# Altium footprint library SamacSys.PcbLib: 46 footprints (part 3 of 3)
Each footprint in its own frame and in the unit in brackets; x right, y up, seen from the top. Pads: shape width x height; smd on the part's side, far side on the other; paste and mask are expansions set on the pad; w line width, h text height; cw(c..) or ccw(c..) is an arc to the next point about the centre after c.
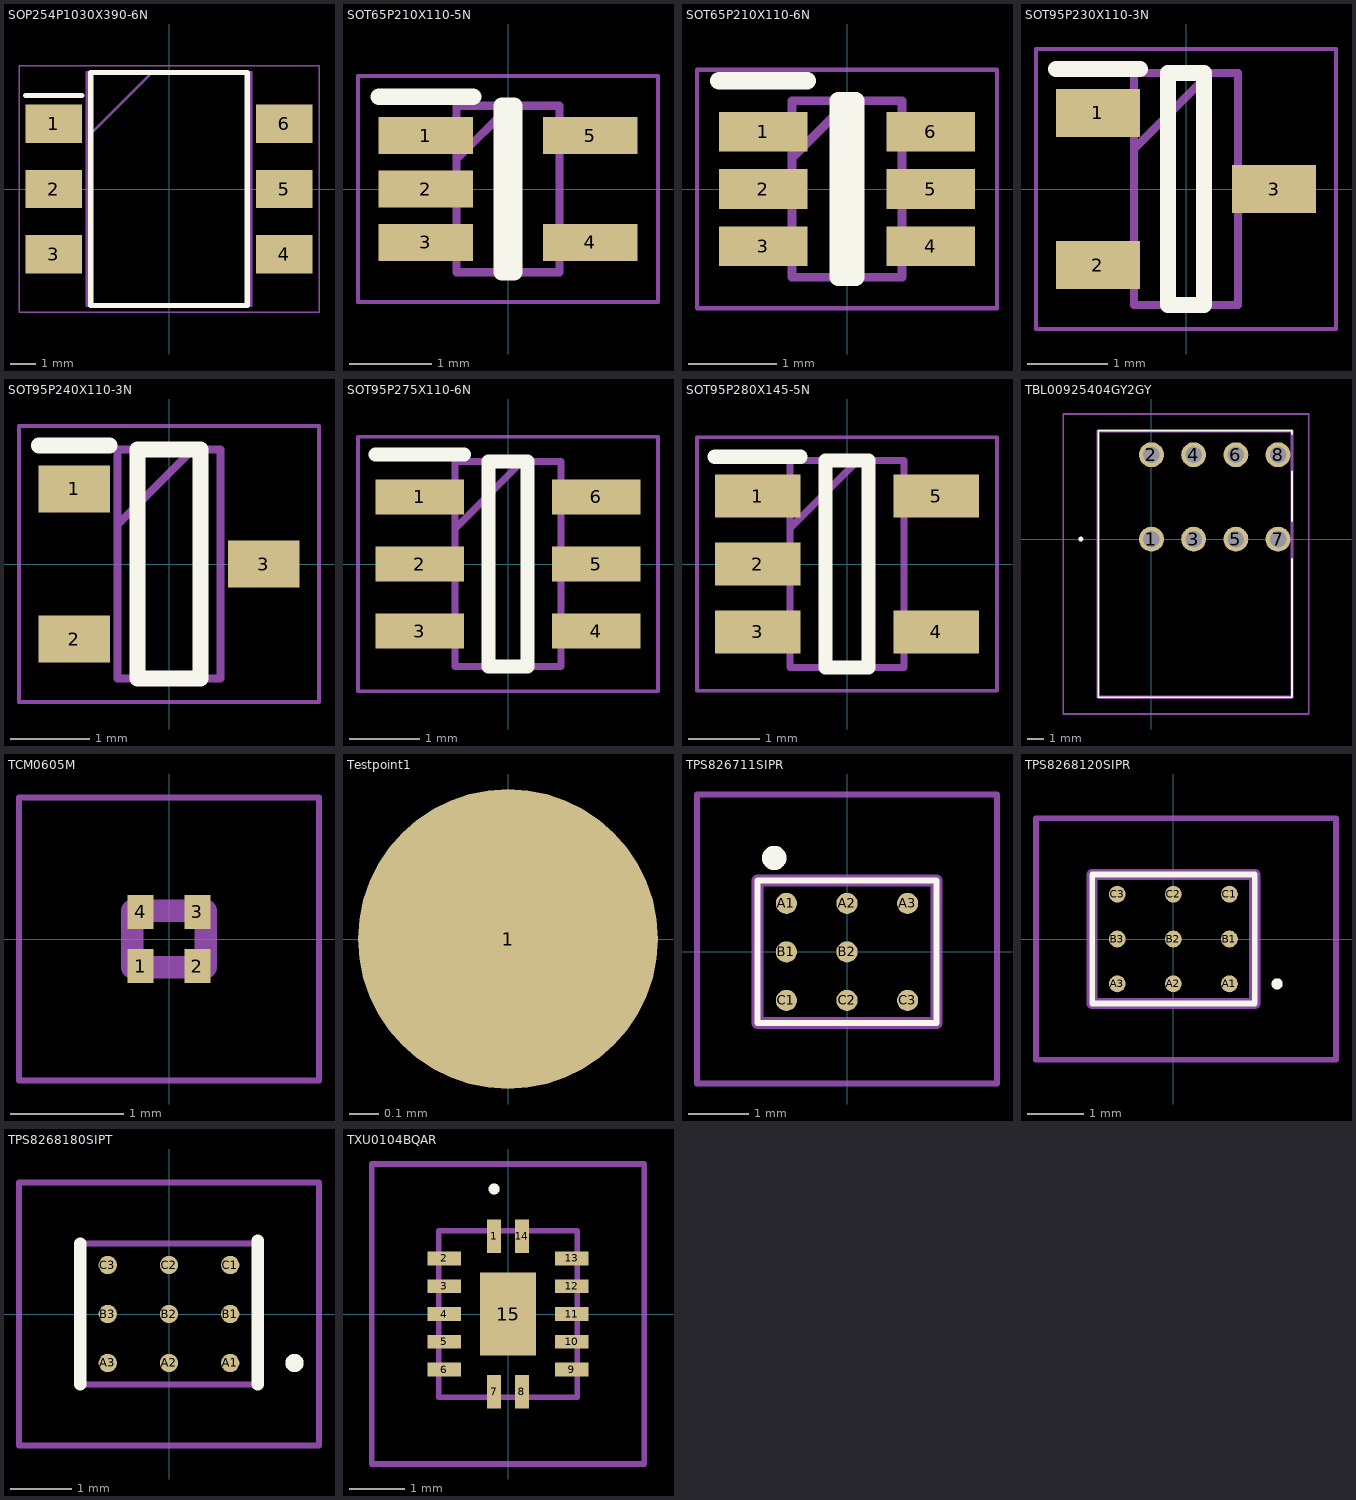
[diagram p2: the footprints below, top view; thin cyan lines are the x and y axes]

## SOP254P1030X390-6N [mm]
pads (6):
  rect 2.2x1.5 smd: 1(-4.5,2.54) 2(-4.5,0) 3(-4.5,-2.54) 4(4.5,-2.54) 5(4.5,0) 6(4.5,2.54)
Top Overlay:
  lines w0.2: -5.6,3.64 -3.4,3.64 ; -3.05,-4.55 3.05,-4.55 3.05,4.55 -3.05,4.55 -3.05,-4.55
Mechanical 13:
  lines w0.1: -3.2,2.01 -0.66,4.55 ; -3.2,-4.55 3.2,-4.55 3.2,4.55 -3.2,4.55 -3.2,-4.55
Mechanical 15:
  lines w0.05: -5.85,-4.8 5.85,-4.8 5.85,4.8 -5.85,4.8 -5.85,-4.8
3D body "CS128.stp": height 3.9, standoff 0, extent -5.15,-4.55 5.15,4.55

## SOT65P210X110-5N [mm]
pads (5):
  rect 1.15x0.45 smd: 1(-1,0.65) 2(-1,0) 3(-1,-0.65) 4(1,-0.65) 5(1,0.65)
Top Overlay:
  lines w0.2: -1.575,1.125 -0.425,1.125 ; -0.075,-1.012 0.075,-1.012 0.075,1.012 -0.075,1.012 -0.075,-1.012
Mechanical 13:
  lines w0.1: -0.625,0.362 0.025,1.012 ; -0.625,-1.012 0.625,-1.012 0.625,1.012 -0.625,1.012 -0.625,-1.012
Mechanical 15:
  lines w0.05: -1.825,-1.375 1.825,-1.375 1.825,1.375 -1.825,1.375 -1.825,-1.375
3D body "MCP6V61UT-E_LTY.stp": height 1.1, standoff 0, extent -1.05,-1.012 1.05,1.012

## SOT65P210X110-6N [mm]
pads (6):
  rect 1x0.45 smd: 1(-0.95,0.65) 2(-0.95,0) 3(-0.95,-0.65) 4(0.95,-0.65) 5(0.95,0) 6(0.95,0.65)
Top Overlay:
  lines w0.2: -1.45,1.225 -0.45,1.225 ; -0.1,-1 -0.1,1 0.1,1 0.1,-1 -0.1,-1
Mechanical 13:
  lines w0.1: -0.625,0.35 0.025,1 ; -0.625,-1 -0.625,1 0.625,1 0.625,-1 -0.625,-1
Mechanical 15:
  lines w0.05: -1.7,-1.35 -1.7,1.35 1.7,1.35 1.7,-1.35 -1.7,-1.35
3D body "PMGD290UCEAX.stp": height 0.95, standoff 0, extent -1.052,-1.091 1.048,1.059

## SOT95P230X110-3N [mm]
pads (3):
  rect 1.05x0.6 smd: 1(-1.1,0.95) 2(-1.1,-0.95) 3(1.1,0)
Top Overlay:
  lines w0.2: -1.625,1.5 -0.575,1.5 ; -0.225,-1.45 -0.225,1.45 0.225,1.45 0.225,-1.45 -0.225,-1.45
Mechanical 13:
  lines w0.1: -0.65,0.5 0.3,1.45 ; -0.65,-1.45 -0.65,1.45 0.65,1.45 0.65,-1.45 -0.65,-1.45
Mechanical 15:
  lines w0.05: -1.875,-1.75 -1.875,1.75 1.875,1.75 1.875,-1.75 -1.875,-1.75
3D body "NX7002AKAR.stp": height 1.1, standoff 0, extent -1.15,-1.45 1.15,1.45

## SOT95P240X110-3N [mm]
pads (3):
  rect 0.9x0.6 smd: 1(-1.2,0.95) 2(-1.2,-0.95) 3(1.2,0)
Top Overlay:
  lines w0.2: -1.65,1.5 -0.75,1.5 ; -0.4,-1.45 0.4,-1.45 0.4,1.45 -0.4,1.45 -0.4,-1.45
Mechanical 13:
  lines w0.1: -0.65,0.5 0.3,1.45 ; -0.65,-1.45 0.65,-1.45 0.65,1.45 -0.65,1.45 -0.65,-1.45
Mechanical 15:
  lines w0.05: -1.9,-1.75 1.9,-1.75 1.9,1.75 -1.9,1.75 -1.9,-1.75
3D body "BAT_15-04R_E6152.stp": height 1.1, standoff 0, extent -1.2,-1.45 1.2,1.45

## SOT95P275X110-6N [mm]
pads (6):
  rect 1.25x0.5 smd: 1(-1.25,0.95) 2(-1.25,0) 3(-1.25,-0.95) 4(1.25,-0.95) 5(1.25,0) 6(1.25,0.95)
Top Overlay:
  lines w0.2: -1.875,1.55 -0.625,1.55 ; -0.275,-1.45 -0.275,1.45 0.275,1.45 0.275,-1.45 -0.275,-1.45
Mechanical 13:
  lines w0.1: -0.75,0.5 0.2,1.45 ; -0.75,-1.45 -0.75,1.45 0.75,1.45 0.75,-1.45 -0.75,-1.45
Mechanical 15:
  lines w0.05: -2.125,-1.8 -2.125,1.8 2.125,1.8 2.125,-1.8 -2.125,-1.8
3D body "PMN30XPAX.stp": height 1.1, standoff 0, extent -1.375,-1.45 1.375,1.45

## SOT95P280X145-5N [mm]
pads (5):
  rect 1.2x0.6 smd: 1(-1.25,0.95) 2(-1.25,0) 3(-1.25,-0.95) 4(1.25,-0.95) 5(1.25,0.95)
Top Overlay:
  lines w0.2: -1.85,1.5 -0.65,1.5 ; -0.3,-1.45 0.3,-1.45 0.3,1.45 -0.3,1.45 -0.3,-1.45
Mechanical 13:
  lines w0.1: -0.8,0.5 0.15,1.45 ; -0.8,-1.45 0.8,-1.45 0.8,1.45 -0.8,1.45 -0.8,-1.45
Mechanical 15:
  lines w0.05: -2.1,-1.775 2.1,-1.775 2.1,1.775 -2.1,1.775 -2.1,-1.775
3D body "OPA735AIDBVT.stp": height 1.2, standoff 0, extent -1.4,-1.45 1.4,1.45

## TBL00925404GY2GY [mm]
pads (8):
  round 1.5 hole 1: 1(0,0) 2(0,5.08) 3(2.54,0) 4(2.54,5.08) 5(5.08,0) 6(5.08,5.08) 7(7.62,0) 8(7.62,5.08)
Top Overlay:
  lines w0.1: -3.2,-9.52 -3.2,6.53 ; -3.2,-9.52 -3.2,6.53 ; -3.2,-9.52 8.46,-9.52 ; -3.2,-9.52 8.46,-9.52 ; -3.2,6.53 8.46,6.53 ; -3.2,6.53 8.46,6.53 ; 8.46,-9.52 8.46,-1.17 8.46,-9.52 ; 8.46,6.53 8.46,6.33 8.46,6.53 ; 8.46,1.08 8.46,4.08 8.46,1.08
  lines w0.2: -4.3,0 ccw(c-4.25,0) -4.2,0 ; -4.3,0 cw(c-4.25,0) -4.2,0 ; -4.3,0 ccw(c-4.25,0) -4.2,0
Mechanical 13:
  lines w0.2: -3.2,-9.52 8.46,-9.52 8.46,6.53 -3.2,6.53 -3.2,-9.52
Mechanical 15:
  lines w0.1: -5.3,-10.52 9.46,-10.52 9.46,7.53 -5.3,7.53 -5.3,-10.52
3D body "TBL009-254-04GY-2GY.stp": height 10.1, standoff -5, extent -3.2,-9.52 8.46,6.53

## TCM0605M [mm]
pads (4):
  rect 0.23x0.3 smd: 1(-0.25,-0.24) 2(0.25,-0.24) 3(0.25,0.24) 4(-0.25,0.24)
Mechanical 13:
  lines w0.2: -0.325,-0.25 -0.325,0.25 0.325,0.25 0.325,-0.25 -0.325,-0.25
Mechanical 15:
  lines w0.05: -1.325,-1.25 -1.325,1.25 1.325,1.25 1.325,-1.25 -1.325,-1.25
3D body "TCM0605M-650-2P-T201.stp": height 0.45, standoff 0, extent -0.342,-0.367 0.342,0.367

## Testpoint1 [mil]
pads (1):
  round 40 smd: 1(0,0)

## TPS826711SIPR [mm]
pads (8):
  round 0.35 smd: A1(-1,0.8) A2(0,0.8) A3(1,0.8) B1(-1,0) B2(0,0) C1(-1,-0.8) C2(0,-0.8) C3(1,-0.8)
Top Overlay:
  lines w0.1: -1.475,-1.175 1.475,-1.175 1.475,1.175 -1.475,1.175 -1.475,-1.175
  lines w0.3: -1.2,1.5 ccw(c-1.2,1.55) -1.2,1.6 ccw(c-1.2,1.55) -1.2,1.5
Mechanical 13:
  lines w0.2: -1.475,-1.175 1.475,-1.175 1.475,1.175 -1.475,1.175 -1.475,-1.175
Mechanical 15:
  lines w0.1: -2.475,-2.175 2.475,-2.175 2.475,2.6 -2.475,2.6 -2.475,-2.175
3D body "TPS826711SIPR.stp": height 1.1, standoff 0, extent -1.475,-1.175 1.475,1.175

## TPS8268120SIPR [mm]
pads (9):
  round 0.3 smd: A1(1,-0.8) A2(0,-0.8) A3(-1,-0.8) B1(1,0) B2(0,0) B3(-1,0) C1(1,0.8) C2(0,0.8) C3(-1,0.8)
Top Overlay:
  lines w0.1: -1.45,-1.15 1.45,-1.15 1.45,1.15 -1.45,1.15 -1.45,-1.15 ; 1.8,-0.8 cw(c1.85,-0.8) 1.9,-0.8 cw(c1.85,-0.8) 1.8,-0.8
Mechanical 13:
  lines w0.2: -1.45,-1.15 1.45,-1.15 1.45,1.15 -1.45,1.15 -1.45,-1.15
Mechanical 15:
  lines w0.1: -2.45,-2.15 2.9,-2.15 2.9,2.15 -2.45,2.15 -2.45,-2.15
3D body "TPS8268120SIPR.stp": height 1, standoff 0, extent -1.45,-1.15 1.45,1.15

## TPS8268180SIPT [mm]
pads (9):
  round 0.3 smd: A1(1,-0.8) A2(0,-0.8) A3(-1,-0.8) B1(1,0) B2(0,0) B3(-1,0) C1(1,0.8) C2(0,0.8) C3(-1,0.8)
Top Overlay:
  lines w0.2: -1.45,-1.15 -1.45,1.15 ; 1.45,-1.15 1.45,1.2 ; 2,-0.8 ccw(c2.05,-0.8) 2.1,-0.8 ; 2,-0.8 cw(c2.05,-0.8) 2.1,-0.8 ; 2,-0.8 ccw(c2.05,-0.8) 2.1,-0.8
Mechanical 13:
  lines w0.1: -1.45,-1.15 -1.45,1.15 1.45,1.15 1.45,-1.15 -1.45,-1.15
Mechanical 15:
  lines w0.1: -2.45,-2.15 -2.45,2.15 2.45,2.15 2.45,-2.15 -2.45,-2.15
3D body "TPS8268180SIPT.stp": height 1.1, standoff 0, extent -1.45,-1.15 1.45,1.15

## TXU0104BQAR [mm]
pads (15):
  rect 0.25x0.6 smd: 1(-0.25,1.4) 7(-0.25,-1.4) 8(0.25,-1.4) 14(0.25,1.4)
  rect 0.6x0.25 smd: 2(-1.15,1) 3(-1.15,0.5) 4(-1.15,0) 5(-1.15,-0.5) 6(-1.15,-1) 9(1.15,-1) 10(1.15,-0.5) 11(1.15,0) 12(1.15,0.5) 13(1.15,1)
  rect 1x1.5 smd: 15(0,0)
Top Overlay:
  lines w0.1: -0.25,2.2 cw(c-0.25,2.25) -0.25,2.3 cw(c-0.25,2.25) -0.25,2.2
Mechanical 13:
  lines w0.1: -1.25,-1.5 -1.25,1.5 1.25,1.5 1.25,-1.5 -1.25,-1.5
Mechanical 15:
  lines w0.1: -2.45,-2.7 -2.45,2.7 2.45,2.7 2.45,-2.7 -2.45,-2.7
3D body "TXU0104BQAR.stp": height 0.9, standoff 0, extent -1.25,-1.5 1.25,1.5